# Altium footprint library TE 3-2188220-1.PcbLib: 1 footprints
Each footprint in its own frame and in the unit in brackets; x right, y up, seen from the top. Pads: shape width x height; smd on the part's side, far side on the other; paste and mask are expansions set on the pad; w line width, h text height; cw(c..) or ccw(c..) is an arc to the next point about the centre after c.
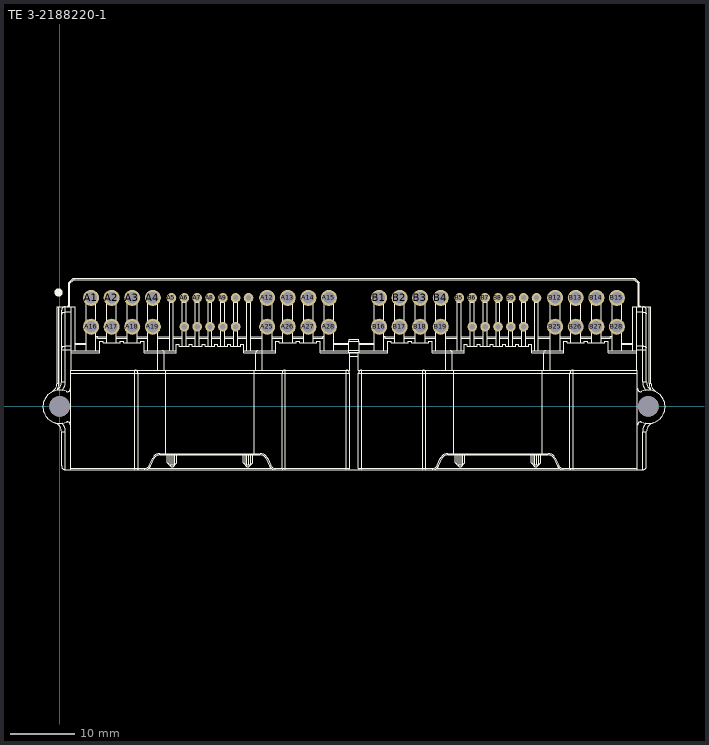
[diagram p0: the footprint, top view; thin cyan lines are the x and y axes]

## TE 3-2188220-1 [mm]
pads (58):
  round 2.5 hole 1.83: A1(4.9,16.9) A2(8.1,16.9) A3(11.3,16.9) A4(14.5,16.9) A12(32.3,16.9) A13(35.5,16.9) A14(38.7,16.9) A15(41.9,16.9) A16(4.9,12.4) A17(8.1,12.4) A18(11.3,12.4) A19(14.5,12.4) A25(32.3,12.4) A26(35.5,12.4) A27(38.7,12.4) A28(41.9,12.4) B1(49.7,16.9) B2(52.9,16.9) B3(56.1,16.9) B4(59.3,16.9) B12(77.1,16.9) B13(80.3,16.9) B14(83.5,16.9) B15(86.7,16.9) B16(49.7,12.4) B17(52.9,12.4) B18(56.1,12.4) B19(59.3,12.4) B25(77.1,12.4) B26(80.3,12.4) B27(83.5,12.4) B28(86.7,12.4)
  round 1.5 hole 0.83: A5(17.4,16.9) A6(19.4,16.9) A7(21.4,16.9) A8(23.4,16.9) A9(25.4,16.9) A10(27.4,16.9) A11(29.4,16.9) A20(19.4,12.4) A21(21.4,12.4) A22(23.4,12.4) A23(25.4,12.4) A24(27.4,12.4) B5(62.2,16.9) B6(64.2,16.9) B7(66.2,16.9) B8(68.2,16.9) B9(70.2,16.9) B10(72.2,16.9) B11(74.2,16.9) B20(64.2,12.4) B21(66.2,12.4) B22(68.2,12.4) B23(70.2,12.4) B24(72.2,12.4)
  round 3.2 hole 3.2: ""(0,0) ""(91.6,0)
Top Overlay:
  drawing of 1933 lines, arcs and shapes, not listed
3D body "c-3-2188220-1-a-3d.stp": height 11.1, standoff -3.15, extent -2.551,-9.855 94.245,19.945